# Altium schematic symbol library Components.SchLib: 45 symbols
Pins are listed as number, name and electrical type; pins without a type are passive.

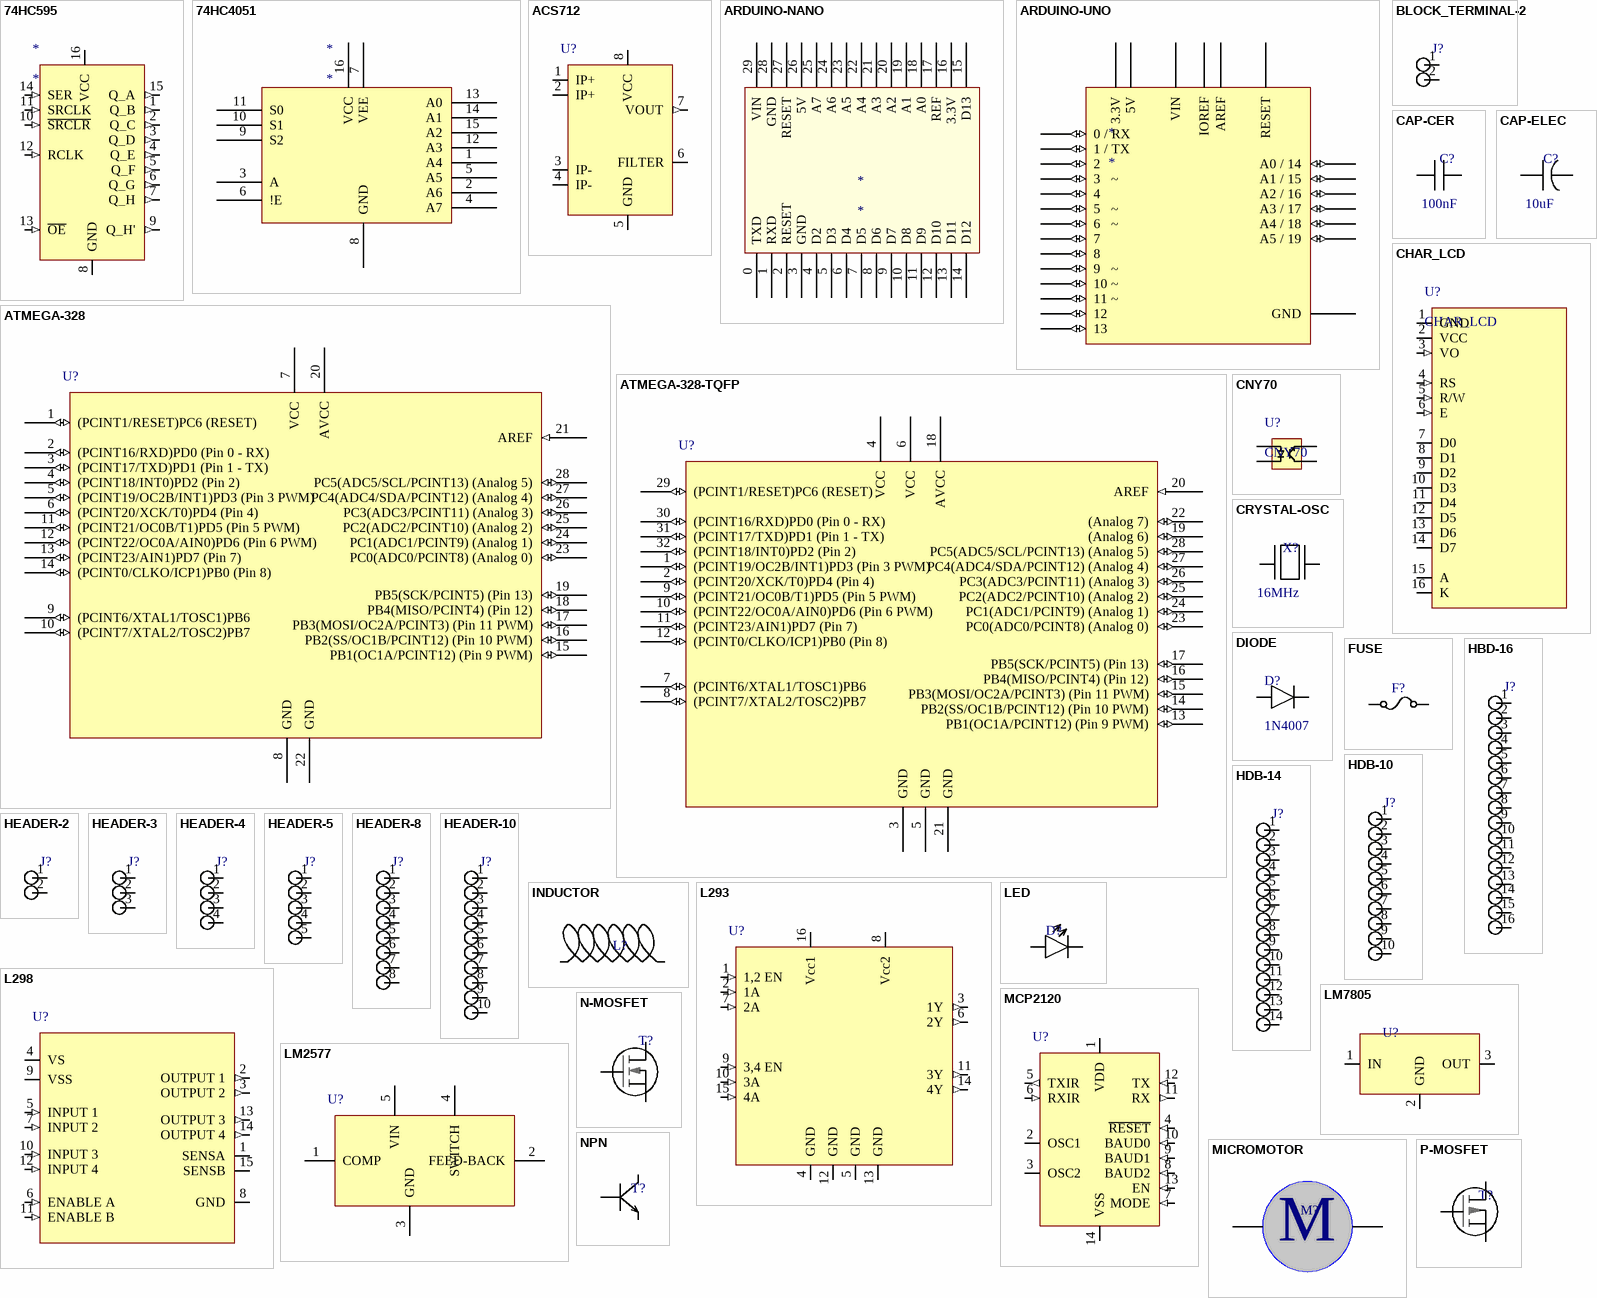
[diagram p0: symbols 74HC595 to P-MOSFET]

## 74HC595
designator *
footprint SOIC-16
footprint DIP16
pins: 1 Q_B (out), 2 Q_C (out), 3 Q_D (out), 4 Q_E (out), 5 Q_F (out), 6 Q_G (out), 7 Q_H (out), 8 GND (power), 9 Q_H' (out), 10 ~{SRCLR} (in), 11 SRCLK (in), 12 RCLK (in), 13 ~{OE} (in), 14 SER (in), 15 Q_A (out), 16 VCC (power)

## 74HC4051
designator *
footprint DIP16
pins: 1 A4 (power), 2 A6 (power), 3 A (power), 4 A7 (power), 5 A5 (power), 6 !E (power), 7 VEE (power), 8 GND (power), 9 S2 (power), 10 S1 (power), 11 S0 (power), 12 A3 (power), 13 A0 (power), 14 A1 (power), 15 A2 (power), 16 VCC (power)

## ACS712
designator U?  (value not drawn)
footprint SOIC-8
pins: 1 IP+, 2 IP+, 3 IP-, 4 IP-, 5 GND (power), 6 FILTER, 7 VOUT (out), 8 VCC (power)

## ARDUINO-NANO
designator *
footprint ARDUINO-NANO
pins: 0 TXD, 1 RXD, 2 RESET, 3 GND, 4 D2, 5 D3, 6 D4, 7 D5, 8 D6, 9 D7, 10 D8, 11 D9, 12 D10, 13 D11, 14 D12, 15 D13, 16 3.3V, 17 REF, 18 A0, 19 A1, 20 A2, 21 A3, 22 A4, 23 A5, 24 A6, 25 A7, 26 5V, 27 RESET, 28 GND, 29 VIN

## ARDUINO-UNO
designator *
footprint ARDUINO-UNO
pins: 0 0 / RX (io), 1 1 / TX (io), 2 (io), 3 3   ~ (io), 3.3V (power), 4 (io), 5 5   ~ (io), 5V (power), 6 6   ~ (io), 7 (io), 8 (io), 9 9   ~ (io), 10 10 ~ (io), 11 11 ~ (io), 12 (io), 13 (io), A0 A0 / 14 (io), A1 A1 / 15 (io), A2 A2 / 16 (io), A3 A3 / 17 (io), A4 A4 / 18 (io), A5 A5 / 19 (io), AREF (power), GND (power), IOREF (power), RESET, VIN (power)

## ATMEGA-328
designator U?  (value not drawn)
footprint DIP28
pins: 1 (PCINT1/RESET)PC6 (RESET) (io), 2 (PCINT16/RXD)PD0 (Pin 0 - RX) (io), 3 (PCINT17/TXD)PD1 (Pin 1 - TX) (io), 4 (PCINT18/INT0)PD2 (Pin 2) (io), 5 (PCINT19/OC2B/INT1)PD3 (Pin 3 PWM) (io), 6 (PCINT20/XCK/T0)PD4 (Pin 4) (io), 7 VCC (power), 8 GND (power), 9 (PCINT6/XTAL1/TOSC1)PB6 (io), 10 (PCINT7/XTAL2/TOSC2)PB7 (io), 11 (PCINT21/OC0B/T1)PD5 (Pin 5 PWM) (io), 12 (PCINT22/OC0A/AIN0)PD6 (Pin 6 PWM) (io), 13 (PCINT23/AIN1)PD7 (Pin 7) (io), 14 (PCINT0/CLKO/ICP1)PB0 (Pin 8) (io), 15 PB1(OC1A/PCINT12) (Pin 9 PWM) (io), 16 PB2(SS/OC1B/PCINT12) (Pin 10 PWM) (io), 17 PB3(MOSI/OC2A/PCINT3) (Pin 11 PWM) (io), 18 PB4(MISO/PCINT4) (Pin 12) (io), 19 PB5(SCK/PCINT5) (Pin 13) (io), 20 AVCC (power), 21 AREF (in), 22 GND (power), 23 PC0(ADC0/PCINT8) (Analog 0) (io), 24 PC1(ADC1/PCINT9) (Analog 1) (io), 25 PC2(ADC2/PCINT10) (Analog 2) (io), 26 PC3(ADC3/PCINT11) (Analog 3) (io), 27 PC4(ADC4/SDA/PCINT12) (Analog 4) (io), 28 PC5(ADC5/SCL/PCINT13) (Analog 5) (io)

## ATMEGA-328-TQFP
designator U?  (value not drawn)
footprint QUAD32
pins: 1 (PCINT19/OC2B/INT1)PD3 (Pin 3 PWM) (io), 2 (PCINT20/XCK/T0)PD4 (Pin 4) (io), 3 GND (power), 4 VCC (power), 5 GND (power), 6 VCC (power), 7 (PCINT6/XTAL1/TOSC1)PB6 (io), 8 (PCINT7/XTAL2/TOSC2)PB7 (io), 9 (PCINT21/OC0B/T1)PD5 (Pin 5 PWM) (io), 10 (PCINT22/OC0A/AIN0)PD6 (Pin 6 PWM) (io), 11 (PCINT23/AIN1)PD7 (Pin 7) (io), 12 (PCINT0/CLKO/ICP1)PB0 (Pin 8) (io), 13 PB1(OC1A/PCINT12) (Pin 9 PWM) (io), 14 PB2(SS/OC1B/PCINT12) (Pin 10 PWM) (io), 15 PB3(MOSI/OC2A/PCINT3) (Pin 11 PWM) (io), 16 PB4(MISO/PCINT4) (Pin 12) (io), 17 PB5(SCK/PCINT5) (Pin 13) (io), 18 AVCC (power), 19 (Analog 6) (io), 20 AREF (in), 21 GND (power), 22 (Analog 7) (io), 23 PC0(ADC0/PCINT8) (Analog 0) (io), 24 PC1(ADC1/PCINT9) (Analog 1) (io), 25 PC2(ADC2/PCINT10) (Analog 2) (io), 26 PC3(ADC3/PCINT11) (Analog 3) (io), 27 PC4(ADC4/SDA/PCINT12) (Analog 4) (io), 28 PC5(ADC5/SCL/PCINT13) (Analog 5) (io), 29 (PCINT1/RESET)PC6 (RESET) (io), 30 (PCINT16/RXD)PD0 (Pin 0 - RX) (io), 31 (PCINT17/TXD)PD1 (Pin 1 - TX) (io), 32 (PCINT18/INT0)PD2 (Pin 2) (io)

## BLOCK_TERMINAL-2
designator J?  (value not drawn)
footprint BLOCK_TERMINAL-2
pins: 1, 2

## CAP-CER
designator C?  value 100nF  (hidden comment: *)
footprint CAP-CER
footprint CAP-0603
footprint CAP-1206
pins: 1, 2

## CAP-ELEC
designator C?  value 10uF  (hidden comment: *)
footprint CAP-ELEC-5x11x2mm
footprint CAP-CASE-D
pins: 1, 2

## CHAR_LCD
designator U?
footprint LCD_16x2
pins: 1 GND (power), 2 VCC (power), 3 VO (in), 4 RS (in), 5 R/W (in), 6 E (in), 7 D0 (io), 8 D1 (io), 9 D2 (io), 10 D3 (io), 11 D4 (io), 12 D5 (io), 13 D6 (io), 14 D7 (io), 15 A (power), 16 K (power)

## CNY70
designator U?
footprint CNY70
pins: A, C, E, K

## CRYSTAL-OSC
designator X?  FREQUENCY: 16MHz  (hidden comment: *)
footprint HC-49/S
pins: 1, 2

## DIODE
designator D?  NAME: 1N4007  (hidden comment: *)
footprint DO-41
footprint DO-214AC
pins: A, K

## FUSE
designator F?  (value not drawn)
RATING: 200mA
footprint FUSE_HOLDER_5x20
pins: 1 (power), 2 (power)

## HBD-16
designator J?  (value not drawn)
footprint HDB-16
pins: 1, 2, 3, 4, 5, 6, 7, 8, 9, 10, 11, 12, 13, 14, 15, 16

## HDB-10
designator J?  (value not drawn)
footprint HDB-10
pins: 1, 2, 3, 4, 5, 6, 7, 8, 9, 10

## HDB-14
designator J?
footprint HDB-14
pins: 1, 2, 3, 4, 5, 6, 7, 8, 9, 10, 11, 12, 13, 14

## HEADER-2
designator J?  (value not drawn)
footprint HEADER-2-VERTICAL
pins: 1, 2

## HEADER-3
designator J?  (value not drawn)
footprint HEADER-3-VERTICAL (Footprint not found)
pins: 1, 2, 3

## HEADER-4
designator J?  (value not drawn)
footprint HEADER-4-VERTICAL
pins: 1, 2, 3, 4

## HEADER-5
designator J?  (value not drawn)
footprint HEADER-5-VERTICAL
pins: 1, 2, 3, 4, 5

## HEADER-8
designator J?  (value not drawn)
footprint HEADER-8-VERTICAL
pins: 1, 2, 3, 4, 5, 6, 7, 8

## HEADER-10
designator J?  (value not drawn)
footprint HEADER-10-VERTICAL
pins: 1, 2, 3, 4, 5, 6, 7, 8, 9, 10

## INDUCTOR
designator L?  (value not drawn)
footprint DRQ127-INDUCTOR
pins: 1, 2

## L293
designator U?  (value not drawn)
footprint DIP16
footprint SOIC-16
pins: 1 1,2 EN (in), 2 1A (in), 3 1Y (out), 4 GND (power), 5 GND (power), 6 2Y (out), 7 2A (in), 8 Vcc2 (power), 9 3,4 EN (in), 10 3A (in), 11 3Y (out), 12 GND (power), 13 GND (power), 14 4Y (out), 15 4A (in), 16 Vcc1 (power)

## L298
designator U?  (value not drawn)
footprint Multiwatt15
pins: 1 SENSA (power), 2 OUTPUT 1 (out), 3 OUTPUT 2 (out), 4 VS (power), 5 INPUT 1 (in), 6 ENABLE A (in), 7 INPUT 2 (in), 8 GND (power), 9 VSS (power), 10 INPUT 3 (in), 11 ENABLE B (in), 12 INPUT 4 (in), 13 OUTPUT 3 (out), 14 OUTPUT 4 (out), 15 SENSB (power)

## LED
designator D?  (value not drawn)
footprint LED-3MM-GREEN
footprint LED-3MM-YELLOW
footprint LED-3MM-RED
footprint LED-0603-GREEN
footprint LED-0603-RED
footprint LED-0603-YELLOW
pins: A, K

## LM2577
designator U?  (value not drawn)
footprint TO-220-5PIN
pins: 1 COMP (power), 2 FEED-BACK (power), 3 GND (power), 4 SWITCH (power), 5 VIN (power)

## LM7805
designator U?  (value not drawn)
footprint TO-220-FLAT
footprint TO-252
footprint TO-220-STRAIGHT
pins: 1 IN (power), 2 GND (power), 3 OUT (power)

## MCP2120
designator U?  (value not drawn)
footprint DIP14
footprint SOIC-14
pins: 1 VDD (power), 2 OSC1, 3 OSC2, 4 ~{RESET} (in), 5 TXIR (out), 6 RXIR (in), 7 MODE (in), 8 BAUD2 (in), 9 BAUD1 (in), 10 BAUD0 (in), 11 RX (out), 12 TX (in), 13 EN (in), 14 VSS (power)

## MICROMOTOR
designator M?  (value not drawn)
footprint MICROMOTOR
footprint FIGNGERTECH_11_SILVER
pins: 1, 2
text: M

## N-MOSFET
designator T?  (value not drawn)
footprint TO-220
footprint SOIC-8
pins: D, G, S

## NPN
designator T?  (value not drawn)
footprint SOT-23
pins: B, C, E

## P-MOSFET
designator T?  (value not drawn)
footprint TO-220
footprint SOIC-8-MOSFET
pins: D, G, S

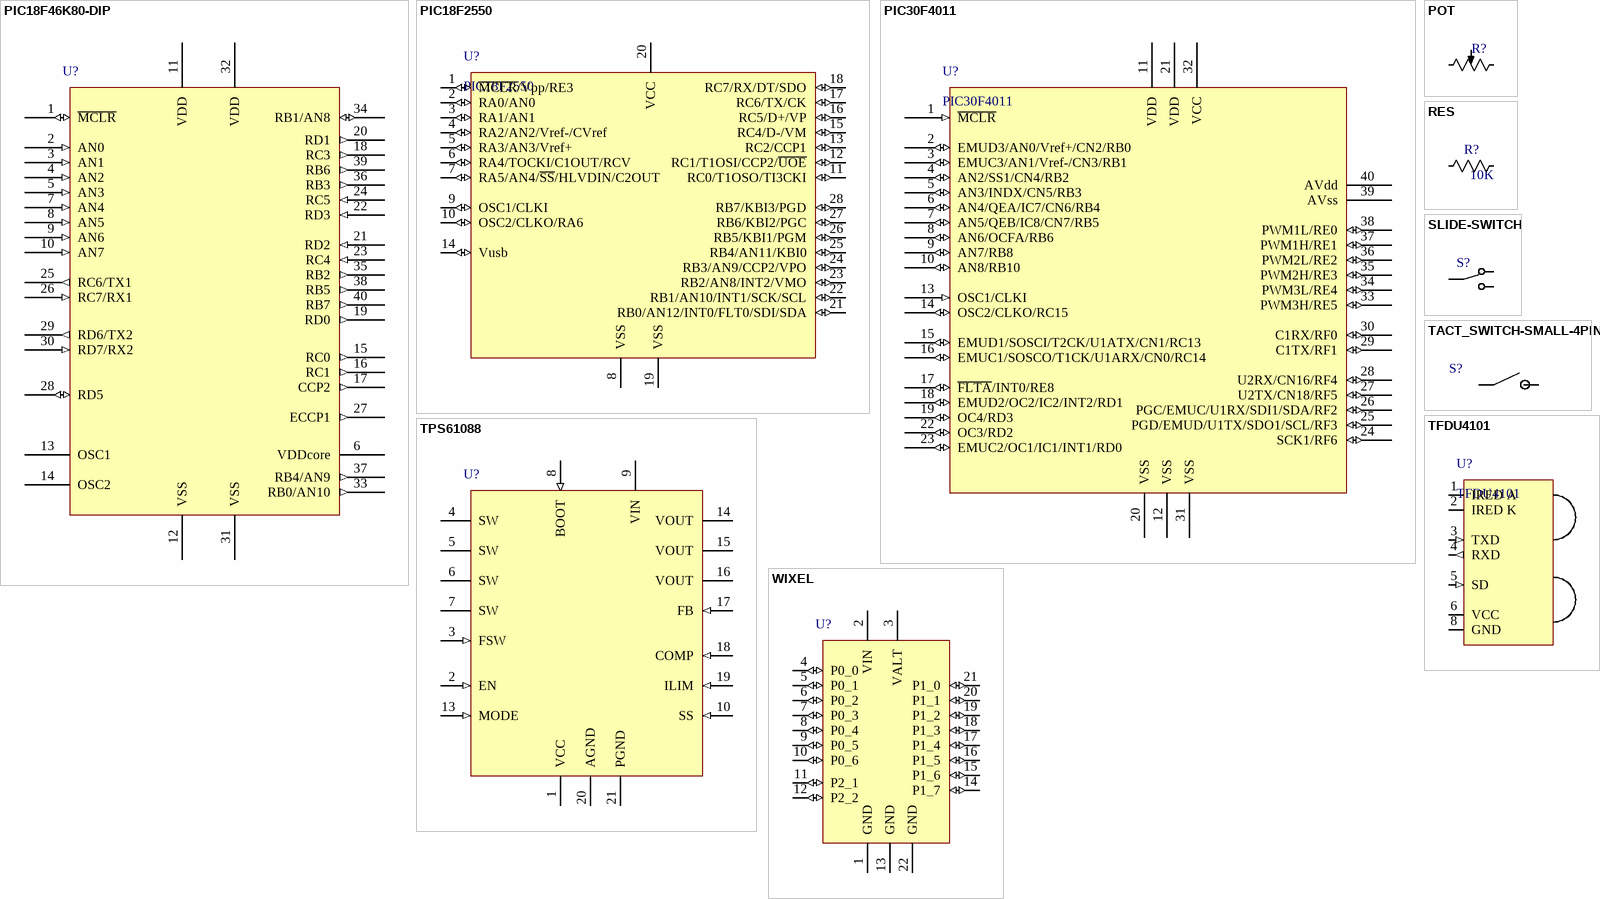
[diagram p1: symbols PIC18F46K80-DIP to WIXEL]

## PIC18F46K80-DIP
designator U?  (value not drawn)
footprint DIP40
pins: 1 ~{MCLR} (io), 2 AN0 (in), 3 AN1 (in), 4 AN2 (in), 5 AN3 (in), 6 VDDcore, 7 AN4 (in), 8 AN5 (in), 9 AN6 (in), 10 AN7 (in), 11 VDD (power), 12 VSS (power), 13 OSC1, 14 OSC2, 15 RC0 (out), 16 RC1 (out), 17 CCP2 (out), 18 RC3 (out), 19 RD0 (out), 20 RD1 (out), 21 RD2 (in), 22 RD3 (in), 23 RC4 (in), 24 RC5 (in), 25 RC6/TX1 (out), 26 RC7/RX1 (in), 27 ECCP1 (out), 28 RD5 (io), 29 RD6/TX2 (out), 30 RD7/RX2 (in), 31 VSS (power), 32 VDD (power), 33 RB0/AN10 (out), 34 RB1/AN8 (io), 35 RB2 (out), 36 RB3 (out), 37 RB4/AN9 (out), 38 RB5 (out), 39 RB6 (out), 40 RB7 (out)

## PIC18F2550
designator U?
footprint DIP28
pins: 1 ~{MCLR}/Vpp/RE3 (io), 2 RA0/AN0 (io), 3 RA1/AN1 (io), 4 RA2/AN2/Vref-/CVref (io), 5 RA3/AN3/Vref+ (io), 6 RA4/TOCKI/C1OUT/RCV (io), 7 RA5/AN4/~{SS}/HLVDIN/C2OUT (io), 8 VSS (power), 9 OSC1/CLKI (io), 10 OSC2/CLKO/RA6 (io), 11 RC0/T1OSO/TI3CKI (io), 12 RC1/T1OSI/CCP2/~{UOE} (io), 13 RC2/CCP1 (io), 14 Vusb (io), 15 RC4/D-/VM (io), 16 RC5/D+/VP (io), 17 RC6/TX/CK (io), 18 RC7/RX/DT/SDO (io), 19 VSS (power), 20 VCC (power), 21 RB0/AN12/INT0/FLT0/SDI/SDA (io), 22 RB1/AN10/INT1/SCK/SCL (io), 23 RB2/AN8/INT2/VMO (io), 24 RB3/AN9/CCP2/VPO (io), 25 RB4/AN11/KBI0 (io), 26 RB5/KBI1/PGM (io), 27 RB6/KBI2/PGC (io), 28 RB7/KBI3/PGD (io)

## PIC30F4011
designator U?
footprint DIP40
pins: 1 ~{MCLR} (in), 2 EMUD3/AN0/Vref+/CN2/RB0 (io), 3 EMUC3/AN1/Vref-/CN3/RB1 (io), 4 AN2/SS1/CN4/RB2 (io), 5 AN3/INDX/CN5/RB3 (io), 6 AN4/QEA/IC7/CN6/RB4 (io), 7 AN5/QEB/IC8/CN7/RB5 (io), 8 AN6/OCFA/RB6 (io), 9 AN7/RB8 (io), 10 AN8/RB10 (io), 11 VDD (power), 12 VSS (power), 13 OSC1/CLKI (in), 14 OSC2/CLKO/RC15 (io), 15 EMUD1/SOSCI/T2CK/U1ATX/CN1/RC13 (io), 16 EMUC1/SOSCO/T1CK/U1ARX/CN0/RC14 (io), 17 ~{FLTA}/INT0/RE8 (io), 18 EMUD2/OC2/IC2/INT2/RD1 (io), 19 OC4/RD3 (io), 20 VSS (power), 21 VDD (power), 22 OC3/RD2 (io), 23 EMUC2/OC1/IC1/INT1/RD0 (io), 24 SCK1/RF6 (io), 25 PGD/EMUD/U1TX/SDO1/SCL/RF3 (io), 26 PGC/EMUC/U1RX/SDI1/SDA/RF2 (io), 27 U2TX/CN18/RF5 (io), 28 U2RX/CN16/RF4 (io), 29 C1TX/RF1 (io), 30 C1RX/RF0 (io), 31 VSS (power), 32 VCC (power), 33 PWM3H/RE5 (io), 34 PWM3L/RE4 (io), 35 PWM2H/RE3 (io), 36 PWM2L/RE2 (io), 37 PWM1H/RE1 (io), 38 PWM1L/RE0 (io), 39 AVss (power), 40 AVdd (power)

## POT
designator R?
footprint MULTITURN_VERTICAL
pins: 1, 2, 3

## RES
designator R?  value 10K
footprint RES-Axial-400mil
footprint RES-AXIAL-5W
footprint RES-0603
footprint RES-1206
pins: 1, 2

## SLIDE-SWITCH
designator S?  (value not drawn)
footprint SWITCH
pins: 1 (power), 2 (power), 3 (power)

## TACT_SWITCH-SMALL-4PIN
designator S?  (value not drawn)
footprint TACT_SWITCH-SMALL-4PIN
footprint TACT-SWITCH-SMD
pins: 1, 2

## TFDU4101
designator U?
footprint TFDU4101
pins: 1 IRED A (power), 2 IRED K (power), 3 TXD (in), 4 RXD (out), 5 SD (in), 6 VCC (power), 8 GND (power)

## TPS61088
designator U?  (value not drawn)
footprint VQFN20
pins: 1 VCC (power), 2 EN (in), 3 FSW (in), 4 SW, 5 SW, 6 SW, 7 SW, 8 BOOT (in), 9 VIN (power), 10 SS (in), 13 MODE (in), 14 VOUT (power), 15 VOUT (power), 16 VOUT (power), 17 FB (in), 18 COMP (in), 19 ILIM (in), 20 AGND (power), 21 PGND (power)

## WIXEL
designator U?  (value not drawn)
footprint WIXEL
pins: 1 GND (power), 2 VIN (power), 3 VALT (power), 4 P0_0 (io), 5 P0_1 (io), 6 P0_2 (io), 7 P0_3 (io), 8 P0_4 (io), 9 P0_5 (io), 10 P0_6 (io), 11 P2_1 (io), 12 P2_2 (io), 13 GND (power), 14 P1_7 (io), 15 P1_6 (io), 16 P1_5 (io), 17 P1_4 (io), 18 P1_3 (io), 19 P1_2 (io), 20 P1_1 (io), 21 P1_0 (io), 22 GND (power)